# Altium integrated library WE-LQ SMD Inductor.IntLib: 48 symbols
Pins are listed as number, name and electrical type; pins without a type are passive.

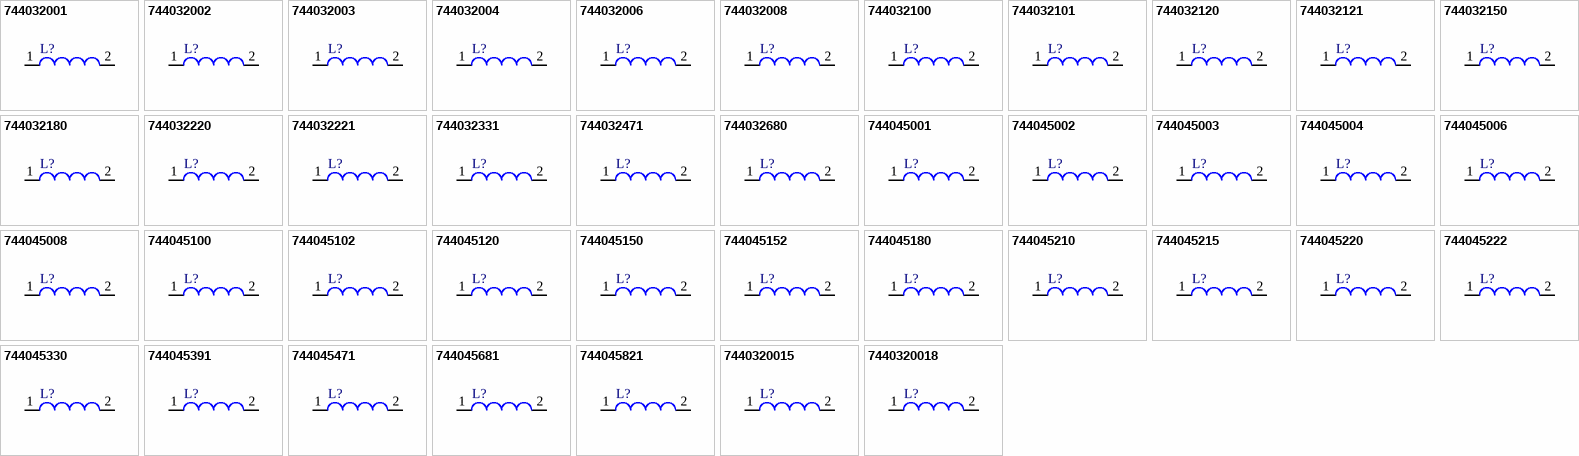
[diagram p0: symbols 744032001 to 7440320018]

## 744032001
designator L?
SMD-RF-Inductor WE-LQ, L = 1.00 µH; PartNumber: 744032001; Inductance: 1.00 µH; DatasheetVersion: ver 3, Jul-2006; PackageReference: WE-LQ-M; PackageDescription: Inductor, 2-Leads, Body 3.2 x 2.5 mm; ComponentLink1Description: Manufacturer URL; ComponentLink1URL: http://www.we-online.com; ComponentLink2Description: Datasheet; ComponentLink2URL: http://www.we-online.de/katalog/media/pdf/744032001.pdf
footprint WE-LQ-M (Inductor, 2-Leads, Body 3.2x2.5x2.3 mm)
pins: 1, 2

## 744032002
designator L?
SMD-RF-Inductor WE-LQ, L = 2.20 µH; PartNumber: 744032002; Inductance: 2.20 µH; DatasheetVersion: ver 3, Jul-2006; PackageReference: WE-LQ-M; PackageDescription: Inductor, 2-Leads, Body 3.2 x 2.5 mm; ComponentLink1Description: Manufacturer URL; ComponentLink1URL: http://www.we-online.com; ComponentLink2Description: Datasheet; ComponentLink2URL: http://www.we-online.de/katalog/media/pdf/744032002.pdf
footprint WE-LQ-M (Inductor, 2-Leads, Body 3.2x2.5x2.3 mm)
pins: 1, 2

## 744032003
designator L?
SMD-RF-Inductor WE-LQ, L = 3.30 µH; PartNumber: 744032003; Inductance: 3.30 µH; DatasheetVersion: ver 3, Jul-2006; PackageReference: WE-LQ-M; PackageDescription: Inductor, 2-Leads, Body 3.2 x 2.5 mm; ComponentLink1Description: Manufacturer URL; ComponentLink1URL: http://www.we-online.com; ComponentLink2Description: Datasheet; ComponentLink2URL: http://www.we-online.de/katalog/media/pdf/744032003.pdf
footprint WE-LQ-M (Inductor, 2-Leads, Body 3.2x2.5x2.3 mm)
pins: 1, 2

## 744032004
designator L?
SMD-RF-Inductor WE-LQ, L = 4.70 µH; PartNumber: 744032004; Inductance: 4.70 µH; DatasheetVersion: ver 3, Jul-2006; PackageReference: WE-LQ-M; PackageDescription: Inductor, 2-Leads, Body 3.2 x 2.5 mm; ComponentLink1Description: Manufacturer URL; ComponentLink1URL: http://www.we-online.com; ComponentLink2Description: Datasheet; ComponentLink2URL: http://www.we-online.de/katalog/media/pdf/744032004.pdf
footprint WE-LQ-M (Inductor, 2-Leads, Body 3.2x2.5x2.3 mm)
pins: 1, 2

## 744032006
designator L?
SMD-RF-Inductor WE-LQ, L = 6.80 µH; PartNumber: 744032006; Inductance: 6.80 µH; DatasheetVersion: ver 3, Jul-2006; PackageReference: WE-LQ-M; PackageDescription: Inductor, 2-Leads, Body 3.2 x 2.5 mm; ComponentLink1Description: Manufacturer URL; ComponentLink1URL: http://www.we-online.com; ComponentLink2Description: Datasheet; ComponentLink2URL: http://www.we-online.de/katalog/media/pdf/744032006.pdf
footprint WE-LQ-M (Inductor, 2-Leads, Body 3.2x2.5x2.3 mm)
pins: 1, 2

## 744032008
designator L?
SMD-RF-Inductor WE-LQ, L = 8.20 µH; PartNumber: 744032008; Inductance: 8.20 µH; DatasheetVersion: ver 3, Jul-2006; PackageReference: WE-LQ-M; PackageDescription: Inductor, 2-Leads, Body 3.2 x 2.5 mm; ComponentLink1Description: Manufacturer URL; ComponentLink1URL: http://www.we-online.com; ComponentLink2Description: Datasheet; ComponentLink2URL: http://www.we-online.de/katalog/media/pdf/744032008.pdf
footprint WE-LQ-M (Inductor, 2-Leads, Body 3.2x2.5x2.3 mm)
pins: 1, 2

## 744032100
designator L?
SMD-RF-Inductor WE-LQ, L = 10.0 µH; PartNumber: 744032100; Inductance: 10.0 µH; DatasheetVersion: ver 2, Jul-2005; PackageReference: WE-LQ-M; PackageDescription: Inductor, 2-Leads, Body 3.2 x 2.5 mm; ComponentLink1Description: Manufacturer URL; ComponentLink1URL: http://www.we-online.com; ComponentLink2Description: Datasheet; ComponentLink2URL: http://www.we-online.de/katalog/media/pdf/744032100.pdf
footprint WE-LQ-M (Inductor, 2-Leads, Body 3.2x2.5x2.3 mm)
pins: 1, 2

## 744032101
designator L?
SMD-RF-Inductor WE-LQ, L = 100.0 µH; PartNumber: 744032101; DatasheetVersion: ver 4, May-2007; PackageReference: WE-LQ-M; PackageDescription: Inductor, 2-Leads, Body 3.2 x 2.5 mm; Inductance: 100.0 µH; ComponentLink1Description: Manufacturer URL; ComponentLink1URL: http://www.we-online.com; ComponentLink2Description: Datasheet; ComponentLink2URL: http://www.we-online.de/katalog/media/pdf/744032101.pdf
footprint WE-LQ-M (Inductor, 2-Leads, Body 3.2x2.5x2.3 mm)
pins: 1, 2

## 744032120
designator L?
SMD-RF-Inductor WE-LQ, L = 12.0 µH; PartNumber: 744032120; Inductance: 12.0 µH; DatasheetVersion: ver 3, Jul-2006; PackageReference: WE-LQ-M; PackageDescription: Inductor, 2-Leads, Body 3.2 x 2.5 mm; ComponentLink1Description: Manufacturer URL; ComponentLink1URL: http://www.we-online.com; ComponentLink2Description: Datasheet; ComponentLink2URL: http://www.we-online.de/katalog/media/pdf/744032120.pdf
footprint WE-LQ-M (Inductor, 2-Leads, Body 3.2x2.5x2.3 mm)
pins: 1, 2

## 744032121
designator L?
SMD-RF-Inductor WE-LQ, L = 120.0 µH; PartNumber: 744032121; DatasheetVersion: ver 3, Jul-2006; PackageReference: WE-LQ-M; PackageDescription: Inductor, 2-Leads, Body 3.2 x 2.5 mm; Inductance: 120.0 µH; ComponentLink1Description: Manufacturer URL; ComponentLink1URL: http://www.we-online.com; ComponentLink2Description: Datasheet; ComponentLink2URL: http://www.we-online.de/katalog/media/pdf/744032121.pdf
footprint WE-LQ-M (Inductor, 2-Leads, Body 3.2x2.5x2.3 mm)
pins: 1, 2

## 744032150
designator L?
SMD-RF-Inductor WE-LQ, L = 15.0 µH; PartNumber: 744032150; Inductance: 15.0 µH; DatasheetVersion: ver 3, Jul-2006; PackageReference: WE-LQ-M; PackageDescription: Inductor, 2-Leads, Body 3.2 x 2.5 mm; ComponentLink1Description: Manufacturer URL; ComponentLink1URL: http://www.we-online.com; ComponentLink2Description: Datasheet; ComponentLink2URL: http://www.we-online.de/katalog/media/pdf/744032150.pdf
footprint WE-LQ-M (Inductor, 2-Leads, Body 3.2x2.5x2.3 mm)
pins: 1, 2

## 744032180
designator L?
SMD-RF-Inductor WE-LQ, L = 18.0 µH; PartNumber: 744032180; Inductance: 18.0 µH; DatasheetVersion: ver 3, Jul-2006; PackageReference: WE-LQ-M; PackageDescription: Inductor, 2-Leads, Body 3.2 x 2.5 mm; ComponentLink1Description: Manufacturer URL; ComponentLink1URL: http://www.we-online.com; ComponentLink2Description: Datasheet; ComponentLink2URL: http://www.we-online.de/katalog/media/pdf/744032180.pdf
footprint WE-LQ-M (Inductor, 2-Leads, Body 3.2x2.5x2.3 mm)
pins: 1, 2

## 744032220
designator L?
SMD-RF-Inductor WE-LQ, L = 22.0 µH; PartNumber: 744032220; Inductance: 22.0 µH; DatasheetVersion: ver 3, Jul-2006; PackageReference: WE-LQ-M; PackageDescription: Inductor, 2-Leads, Body 3.2 x 2.5 mm; ComponentLink1Description: Manufacturer URL; ComponentLink1URL: http://www.we-online.com; ComponentLink2Description: Datasheet; ComponentLink2URL: http://www.we-online.de/katalog/media/pdf/744032220.pdf
footprint WE-LQ-M (Inductor, 2-Leads, Body 3.2x2.5x2.3 mm)
pins: 1, 2

## 744032221
designator L?
SMD-RF-Inductor WE-LQ, L = 220.0 µH; PartNumber: 744032221; DatasheetVersion: ver 3, Oct-2008; PackageReference: WE-LQ-M; PackageDescription: Inductor, 2-Leads, Body 3.2 x 2.5 mm; Inductance: 220.0 µH; ComponentLink1Description: Manufacturer URL; ComponentLink1URL: http://www.we-online.com; ComponentLink2Description: Datasheet; ComponentLink2URL: http://www.we-online.de/katalog/media/pdf/744032221.pdf
footprint WE-LQ-M (Inductor, 2-Leads, Body 3.2x2.5x2.3 mm)
pins: 1, 2

## 744032331
designator L?
SMD-RF-Inductor WE-LQ, L = 330 µH; PartNumber: 744032331; Inductance: 330 µH; DatasheetVersion: ver 3, Jul-2006; PackageReference: WE-LQ-M; PackageDescription: Inductor, 2-Leads, Body 3.2 x 2.5 mm; ComponentLink1Description: Manufacturer URL; ComponentLink1URL: http://www.we-online.com; ComponentLink2Description: Datasheet; ComponentLink2URL: http://www.we-online.de/katalog/media/pdf/744032331.pdf
footprint WE-LQ-M (Inductor, 2-Leads, Body 3.2x2.5x2.3 mm)
pins: 1, 2

## 744032471
designator L?
SMD-RF-Inductor WE-LQ, L = 470 µH; PartNumber: 744032471; Inductance: 470 µH; DatasheetVersion: ver 3, Jul-2006; PackageReference: WE-LQ-M; PackageDescription: Inductor, 2-Leads, Body 3.2 x 2.5 mm; ComponentLink1Description: Manufacturer URL; ComponentLink1URL: http://www.we-online.com; ComponentLink2Description: Datasheet; ComponentLink2URL: http://www.we-online.de/katalog/media/pdf/744032471.pdf
footprint WE-LQ-M (Inductor, 2-Leads, Body 3.2x2.5x2.3 mm)
pins: 1, 2

## 744032680
designator L?
SMD-RF-Inductor WE-LQ, L = 68.0 µH; PartNumber: 744032680; Inductance: 68.0 µH; DatasheetVersion: ver 3, Jul-2006; PackageReference: WE-LQ-M; PackageDescription: Inductor, 2-Leads, Body 3.2 x 2.5 mm; ComponentLink1Description: Manufacturer URL; ComponentLink1URL: http://www.we-online.com; ComponentLink2Description: Datasheet; ComponentLink2URL: http://www.we-online.de/katalog/media/pdf/744032680.pdf
footprint WE-LQ-M (Inductor, 2-Leads, Body 3.2x2.5x2.3 mm)
pins: 1, 2

## 744045001
designator L?
SMD-RF-Inductor WE-LQ, L = 1.00 µH; PartNumber: 744045001; Inductance: 1.00 µH; DatasheetVersion: ver 3, Jul-2006; PackageReference: WE-LQ-L; PackageDescription: Inductor, 2-Leads, Body 4.5 x 3.2 mm; ComponentLink1Description: Manufacturer URL; ComponentLink1URL: http://www.we-online.com; ComponentLink2Description: Datasheet; ComponentLink2URL: http://www.we-online.de/katalog/media/pdf/744045001.pdf
footprint WE-LQ-L (Inductor, 2-Leads, Body 4.5x3.2x2.9 mm)
pins: 1, 2

## 744045002
designator L?
SMD-RF-Inductor WE-LQ, L = 2.20 µH; PartNumber: 744045002; Inductance: 2.20 µH; DatasheetVersion: ver 3, Jul-2006; PackageReference: WE-LQ-L; PackageDescription: Inductor, 2-Leads, Body 4.5 x 3.2 mm; ComponentLink1Description: Manufacturer URL; ComponentLink1URL: http://www.we-online.com; ComponentLink2Description: Datasheet; ComponentLink2URL: http://www.we-online.de/katalog/media/pdf/744045002.pdf
footprint WE-LQ-L (Inductor, 2-Leads, Body 4.5x3.2x2.9 mm)
pins: 1, 2

## 744045003
designator L?
SMD-RF-Inductor WE-LQ, L = 3.30 µH; PartNumber: 744045003; Inductance: 3.30 µH; DatasheetVersion: ver 3, Jul-2006; PackageReference: WE-LQ-L; PackageDescription: Inductor, 2-Leads, Body 4.5 x 3.2 mm; ComponentLink1Description: Manufacturer URL; ComponentLink1URL: http://www.we-online.com; ComponentLink2Description: Datasheet; ComponentLink2URL: http://www.we-online.de/katalog/media/pdf/744045003.pdf
footprint WE-LQ-L (Inductor, 2-Leads, Body 4.5x3.2x2.9 mm)
pins: 1, 2

## 744045004
designator L?
SMD-RF-Inductor WE-LQ, L = 4.70 µH; PartNumber: 744045004; Inductance: 4.70 µH; DatasheetVersion: ver 3, Jul-2006; PackageReference: WE-LQ-L; PackageDescription: Inductor, 2-Leads, Body 4.5 x 3.2 mm; ComponentLink1Description: Manufacturer URL; ComponentLink1URL: http://www.we-online.com; ComponentLink2Description: Datasheet; ComponentLink2URL: http://www.we-online.de/katalog/media/pdf/744045004.pdf
footprint WE-LQ-L (Inductor, 2-Leads, Body 4.5x3.2x2.9 mm)
pins: 1, 2

## 744045006
designator L?
SMD-RF-Inductor WE-LQ, L = 6.80 µH; PartNumber: 744045006; Inductance: 6.80 µH; DatasheetVersion: ver 3, Jul-2006; PackageReference: WE-LQ-L; PackageDescription: Inductor, 2-Leads, Body 4.5 x 3.2 mm; ComponentLink1Description: Manufacturer URL; ComponentLink1URL: http://www.we-online.com; ComponentLink2Description: Datasheet; ComponentLink2URL: http://www.we-online.de/katalog/media/pdf/744045006.pdf
footprint WE-LQ-L (Inductor, 2-Leads, Body 4.5x3.2x2.9 mm)
pins: 1, 2

## 744045008
designator L?
SMD-RF-Inductor WE-LQ, L = 8.20 µH; PartNumber: 744045008; Inductance: 8.20 µH; DatasheetVersion: ver 3, Jul-2006; PackageReference: WE-LQ-L; PackageDescription: Inductor, 2-Leads, Body 4.5 x 3.2 mm; ComponentLink1Description: Manufacturer URL; ComponentLink1URL: http://www.we-online.com; ComponentLink2Description: Datasheet; ComponentLink2URL: http://www.we-online.de/katalog/media/pdf/744045008.pdf
footprint WE-LQ-L (Inductor, 2-Leads, Body 4.5x3.2x2.9 mm)
pins: 1, 2

## 744045100
designator L?
SMD-RF-Inductor WE-LQ, L = 10.0 µH; PartNumber: 744045100; Inductance: 10.0 µH; DatasheetVersion: ver 3, Jul-2006; PackageReference: WE-LQ-L; PackageDescription: Inductor, 2-Leads, Body 4.5 x 3.2 mm; ComponentLink1Description: Manufacturer URL; ComponentLink1URL: http://www.we-online.com; ComponentLink2Description: Datasheet; ComponentLink2URL: http://www.we-online.de/katalog/media/pdf/744045100.pdf
footprint WE-LQ-L (Inductor, 2-Leads, Body 4.5x3.2x2.9 mm)
pins: 1, 2

## 744045102
designator L?
SMD-RF-Inductor WE-LQ, L = 1000 µH; PartNumber: 744045102; Inductance: 1000 µH; DatasheetVersion: ver 4, Oct-2008; PackageReference: WE-LQ-L; PackageDescription: Inductor, 2-Leads, Body 4.5 x 3.2 mm; ComponentLink1Description: Manufacturer URL; ComponentLink1URL: http://www.we-online.com; ComponentLink2Description: Datasheet; ComponentLink2URL: http://www.we-online.de/katalog/media/pdf/744045102.pdf
footprint WE-LQ-L (Inductor, 2-Leads, Body 4.5x3.2x2.9 mm)
pins: 1, 2

## 744045120
designator L?
SMD-RF-Inductor WE-LQ, L = 12.0 µH; PartNumber: 744045120; Inductance: 12.0 µH; DatasheetVersion: ver 3, Jul-2006; PackageReference: WE-LQ-L; PackageDescription: Inductor, 2-Leads, Body 4.5 x 3.2 mm; ComponentLink1Description: Manufacturer URL; ComponentLink1URL: http://www.we-online.com; ComponentLink2Description: Datasheet; ComponentLink2URL: http://www.we-online.de/katalog/media/pdf/744045120.pdf
footprint WE-LQ-L (Inductor, 2-Leads, Body 4.5x3.2x2.9 mm)
pins: 1, 2

## 744045150
designator L?
SMD-RF-Inductor WE-LQ, L = 15.0 µH; PartNumber: 744045150; Inductance: 15.0 µH; DatasheetVersion: ver 3, Jul-2006; PackageReference: WE-LQ-L; PackageDescription: Inductor, 2-Leads, Body 4.5 x 3.2 mm; ComponentLink1Description: Manufacturer URL; ComponentLink1URL: http://www.we-online.com; ComponentLink2Description: Datasheet; ComponentLink2URL: http://www.we-online.de/katalog/media/pdf/744045150.pdf
footprint WE-LQ-L (Inductor, 2-Leads, Body 4.5x3.2x2.9 mm)
pins: 1, 2

## 744045152
designator L?
SMD-RF-Inductor WE-LQ, L = 1500 µH; PartNumber: 744045152; Inductance: 1500 µH; DatasheetVersion: ver 3, Jul-2006; PackageReference: WE-LQ-L; PackageDescription: Inductor, 2-Leads, Body 4.5 x 3.2 mm; ComponentLink1Description: Manufacturer URL; ComponentLink1URL: http://www.we-online.com; ComponentLink2Description: Datasheet; ComponentLink2URL: http://www.we-online.de/katalog/media/pdf/744045152.pdf
footprint WE-LQ-L (Inductor, 2-Leads, Body 4.5x3.2x2.9 mm)
pins: 1, 2

## 744045180
designator L?
SMD-RF-Inductor WE-LQ, L = 18.0 µH; PartNumber: 744045180; Inductance: 18.0 µH; DatasheetVersion: ver 3, Jul-2006; PackageReference: WE-LQ-L; PackageDescription: Inductor, 2-Leads, Body 4.5 x 3.2 mm; ComponentLink1Description: Manufacturer URL; ComponentLink1URL: http://www.we-online.com; ComponentLink2Description: Datasheet; ComponentLink2URL: http://www.we-online.de/katalog/media/pdf/744045180.pdf
footprint WE-LQ-L (Inductor, 2-Leads, Body 4.5x3.2x2.9 mm)
pins: 1, 2

## 744045210
designator L?
SMD-RF-Inductor WE-LQ, L = 100.0 µH; PartNumber: 744045210; DatasheetVersion: ver 3, Jul-2006; PackageReference: WE-LQ-L; PackageDescription: Inductor, 2-Leads, Body 4.5 x 3.2 mm; Inductance: 100.0 µH; ComponentLink1Description: Manufacturer URL; ComponentLink1URL: http://www.we-online.com; ComponentLink2Description: Datasheet; ComponentLink2URL: http://www.we-online.de/katalog/media/pdf/744045210.pdf
footprint WE-LQ-L (Inductor, 2-Leads, Body 4.5x3.2x2.9 mm)
pins: 1, 2

## 744045215
designator L?
SMD-RF-Inductor WE-LQ, L = 150.0 µH; PartNumber: 744045215; DatasheetVersion: ver 3, Jul-2006; PackageReference: WE-LQ-L; PackageDescription: Inductor, 2-Leads, Body 4.5 x 3.2 mm; Inductance: 150.0 µH; ComponentLink1Description: Manufacturer URL; ComponentLink1URL: http://www.we-online.com; ComponentLink2Description: Datasheet; ComponentLink2URL: http://www.we-online.de/katalog/media/pdf/744045215.pdf
footprint WE-LQ-L (Inductor, 2-Leads, Body 4.5x3.2x2.9 mm)
pins: 1, 2

## 744045220
designator L?
SMD-RF-Inductor WE-LQ, L = 22.0 µH; PartNumber: 744045220; Inductance: 22.0 µH; DatasheetVersion: ver 3, Jul-2006; PackageReference: WE-LQ-L; PackageDescription: Inductor, 2-Leads, Body 4.5 x 3.2 mm; ComponentLink1Description: Manufacturer URL; ComponentLink1URL: http://www.we-online.com; ComponentLink2Description: Datasheet; ComponentLink2URL: http://www.we-online.de/katalog/media/pdf/744045220.pdf
footprint WE-LQ-L (Inductor, 2-Leads, Body 4.5x3.2x2.9 mm)
pins: 1, 2

## 744045222
designator L?
SMD-RF-Inductor WE-LQ, L = 2200 µH; PartNumber: 744045222; Inductance: 2200 µH; DatasheetVersion: ver 3, Jul-2006; PackageReference: WE-LQ-L; PackageDescription: Inductor, 2-Leads, Body 4.5 x 3.2 mm; ComponentLink1Description: Manufacturer URL; ComponentLink1URL: http://www.we-online.com; ComponentLink2Description: Datasheet; ComponentLink2URL: http://www.we-online.de/katalog/media/pdf/744045222.pdf
footprint WE-LQ-L (Inductor, 2-Leads, Body 4.5x3.2x2.9 mm)
pins: 1, 2

## 744045330
designator L?
SMD-RF-Inductor WE-LQ, L = 33.0 µH; PartNumber: 744045330; Inductance: 33.0 µH; DatasheetVersion: ver 3, Jul-2006; PackageReference: WE-LQ-L; PackageDescription: Inductor, 2-Leads, Body 4.5 x 3.2 mm; ComponentLink1Description: Manufacturer URL; ComponentLink1URL: http://www.we-online.com; ComponentLink2Description: Datasheet; ComponentLink2URL: http://www.we-online.de/katalog/media/pdf/744045330.pdf
footprint WE-LQ-L (Inductor, 2-Leads, Body 4.5x3.2x2.9 mm)
pins: 1, 2

## 744045391
designator L?
SMD-RF-Inductor WE-LQ, L = 390.0 µH; PartNumber: 744045391; DatasheetVersion: ver 3, Jul-2006; PackageReference: WE-LQ-L; PackageDescription: Inductor, 2-Leads, Body 4.5 x 3.2 mm; Inductance: 390.0 µH; ComponentLink1Description: Manufacturer URL; ComponentLink1URL: http://www.we-online.com; ComponentLink2Description: Datasheet; ComponentLink2URL: http://www.we-online.de/katalog/media/pdf/744045391.pdf
footprint WE-LQ-L (Inductor, 2-Leads, Body 4.5x3.2x2.9 mm)
pins: 1, 2

## 744045471
designator L?
SMD-RF-Inductor WE-LQ, L = 470.0 µH; PartNumber: 744045471; DatasheetVersion: ver 3, Jul-2006; PackageReference: WE-LQ-L; PackageDescription: Inductor, 2-Leads, Body 4.5 x 3.2 mm; Inductance: 470.0 µH; ComponentLink1Description: Manufacturer URL; ComponentLink1URL: http://www.we-online.com; ComponentLink2Description: Datasheet; ComponentLink2URL: http://www.we-online.de/katalog/media/pdf/744045471.pdf
footprint WE-LQ-L (Inductor, 2-Leads, Body 4.5x3.2x2.9 mm)
pins: 1, 2

## 744045681
designator L?
SMD-RF-Inductor WE-LQ, L = 680.0 µH; PartNumber: 744045681; DatasheetVersion: ver 4, Oct-2008; PackageReference: WE-LQ-L; PackageDescription: Inductor, 2-Leads, Body 4.5 x 3.2 mm; Inductance: 680.0 µH; ComponentLink1Description: Manufacturer URL; ComponentLink1URL: http://www.we-online.com; ComponentLink2Description: Datasheet; ComponentLink2URL: http://www.we-online.de/katalog/media/pdf/744045681.pdf
footprint WE-LQ-L (Inductor, 2-Leads, Body 4.5x3.2x2.9 mm)
pins: 1, 2

## 744045821
designator L?
SMD-RF-Inductor WE-LQ, L = 820.0 µH; PartNumber: 744045821; DatasheetVersion: Jul-2006; PackageReference: WE-LQ-L; PackageDescription: Inductor, 2-Leads, Body 4.5 x 3.2 mm; Inductance: 820.0 µH; ComponentLink1Description: Manufacturer URL; ComponentLink1URL: http://www.we-online.com; ComponentLink2Description: Datasheet; ComponentLink2URL: http://www.we-online.de/katalog/media/pdf/744045821.pdf
footprint WE-LQ-L (Inductor, 2-Leads, Body 4.5x3.2x2.9 mm)
pins: 1, 2

## 7440320015
designator L?
SMD-RF-Inductor WE-LQ, L = 1.50 µH; PartNumber: 7440320015; Inductance: 1.50 µH; DatasheetVersion: ver 3, Jul-2006; PackageReference: WE-LQ-M; PackageDescription: Inductor, 2-Leads, Body 3.2 x 2.5 mm; ComponentLink1Description: Manufacturer URL; ComponentLink1URL: http://www.we-online.com; ComponentLink2Description: Datasheet; ComponentLink2URL: http://www.we-online.de/katalog/media/pdf/7440320015.pdf
footprint WE-LQ-M (Inductor, 2-Leads, Body 3.2x2.5x2.3 mm)
pins: 1, 2

## 7440320018
designator L?
SMD-RF-Inductor WE-LQ, L = 1.80 µH; PartNumber: 7440320018; Inductance: 1.80 µH; DatasheetVersion: ver 3, Jul-2006; PackageReference: WE-LQ-M; PackageDescription: Inductor, 2-Leads, Body 3.2 x 2.5 mm; ComponentLink1Description: Manufacturer URL; ComponentLink1URL: http://www.we-online.com; ComponentLink2Description: Datasheet; ComponentLink2URL: http://www.we-online.de/katalog/media/pdf/7440320018.pdf
footprint WE-LQ-M (Inductor, 2-Leads, Body 3.2x2.5x2.3 mm)
pins: 1, 2

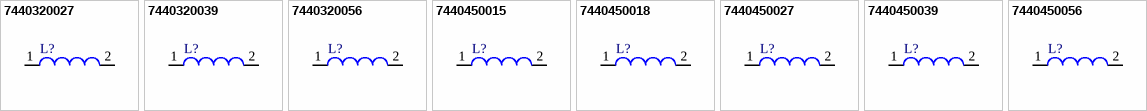
[diagram p1: symbols 7440320027 to 7440450056]

## 7440320027
designator L?
SMD-RF-Inductor WE-LQ, L = 2.70 µH; PartNumber: 7440320027; Inductance: 2.70 µH; DatasheetVersion: ver 3, Jul-2006; PackageReference: WE-LQ-M; PackageDescription: Inductor, 2-Leads, Body 3.2 x 2.5 mm; ComponentLink1Description: Manufacturer URL; ComponentLink1URL: http://www.we-online.com; ComponentLink2Description: Datasheet; ComponentLink2URL: http://www.we-online.de/katalog/media/pdf/7440320027.pdf
footprint WE-LQ-M (Inductor, 2-Leads, Body 3.2x2.5x2.3 mm)
pins: 1, 2

## 7440320039
designator L?
SMD-RF-Inductor WE-LQ, L = 3.90 µH; PartNumber: 7440320039; Inductance: 3.90 µH; DatasheetVersion: ver 3, Jul-2006; PackageReference: WE-LQ-M; PackageDescription: Inductor, 2-Leads, Body 3.2 x 2.5 mm; ComponentLink1Description: Manufacturer URL; ComponentLink1URL: http://www.we-online.com; ComponentLink2Description: Datasheet; ComponentLink2URL: http://www.we-online.de/katalog/media/pdf/7440320039.pdf
footprint WE-LQ-M (Inductor, 2-Leads, Body 3.2x2.5x2.3 mm)
pins: 1, 2

## 7440320056
designator L?
SMD-RF-Inductor WE-LQ, L = 5.60 µH; PartNumber: 7440320056; Inductance: 5.60 µH; DatasheetVersion: ver 3, Jul-2006; PackageReference: WE-LQ-M; PackageDescription: Inductor, 2-Leads, Body 3.2 x 2.5 mm; ComponentLink1Description: Manufacturer URL; ComponentLink1URL: http://www.we-online.com; ComponentLink2Description: Datasheet; ComponentLink2URL: http://www.we-online.de/katalog/media/pdf/7440320056.pdf
footprint WE-LQ-M (Inductor, 2-Leads, Body 3.2x2.5x2.3 mm)
pins: 1, 2

## 7440450015
designator L?
SMD-RF-Inductor WE-LQ, L = 1.50 µH; PartNumber: 7440450015; Inductance: 1.50 µH; DatasheetVersion: ver 3, Jul-2006; PackageReference: WE-LQ-L; PackageDescription: Inductor, 2-Leads, Body 4.5 x 3.2 mm; ComponentLink1Description: Manufacturer URL; ComponentLink1URL: http://www.we-online.com; ComponentLink2Description: Datasheet; ComponentLink2URL: http://www.we-online.de/katalog/media/pdf/7440450015.pdf
footprint WE-LQ-L (Inductor, 2-Leads, Body 4.5x3.2x2.9 mm)
pins: 1, 2

## 7440450018
designator L?
SMD-RF-Inductor WE-LQ, L = 1.80 µH; PartNumber: 7440450018; Inductance: 1.80 µH; DatasheetVersion: ver 3, Jul-2006; PackageReference: WE-LQ-L; PackageDescription: Inductor, 2-Leads, Body 4.5 x 3.2 mm; ComponentLink1Description: Manufacturer URL; ComponentLink1URL: http://www.we-online.com; ComponentLink2Description: Datasheet; ComponentLink2URL: http://www.we-online.de/katalog/media/pdf/7440450018.pdf
footprint WE-LQ-L (Inductor, 2-Leads, Body 4.5x3.2x2.9 mm)
pins: 1, 2

## 7440450027
designator L?
SMD-RF-Inductor WE-LQ, L = 2.70 µH; PartNumber: 7440450027; Inductance: 2.70 µH; DatasheetVersion: ver 3, Jul-2006; PackageReference: WE-LQ-L; PackageDescription: Inductor, 2-Leads, Body 4.5 x 3.2 mm; ComponentLink1Description: Manufacturer URL; ComponentLink1URL: http://www.we-online.com; ComponentLink2Description: Datasheet; ComponentLink2URL: http://www.we-online.de/katalog/media/pdf/7440450027.pdf
footprint WE-LQ-L (Inductor, 2-Leads, Body 4.5x3.2x2.9 mm)
pins: 1, 2

## 7440450039
designator L?
SMD-RF-Inductor WE-LQ, L = 3.90 µH; PartNumber: 7440450039; Inductance: 3.90 µH; DatasheetVersion: ver 3, Jul-2006; PackageReference: WE-LQ-L; PackageDescription: Inductor, 2-Leads, Body 4.5 x 3.2 mm; ComponentLink1Description: Manufacturer URL; ComponentLink1URL: http://www.we-online.com; ComponentLink2Description: Datasheet; ComponentLink2URL: http://www.we-online.de/katalog/media/pdf/7440450039.pdf
footprint WE-LQ-L (Inductor, 2-Leads, Body 4.5x3.2x2.9 mm)
pins: 1, 2

## 7440450056
designator L?
SMD-RF-Inductor WE-LQ, L = 5.60 µH; PartNumber: 7440450056; Inductance: 5.60 µH; DatasheetVersion: ver 3, Jul-2006; PackageReference: WE-LQ-L; PackageDescription: Inductor, 2-Leads, Body 4.5 x 3.2 mm; ComponentLink1Description: Manufacturer URL; ComponentLink1URL: http://www.we-online.com; ComponentLink2Description: Datasheet; ComponentLink2URL: http://www.we-online.de/katalog/media/pdf/7440450056.pdf
footprint WE-LQ-L (Inductor, 2-Leads, Body 4.5x3.2x2.9 mm)
pins: 1, 2